# Altium schematic symbol library Hall_Sensor.SchLib: 1 symbol
Pins are listed as number, name and electrical type; pins without a type are passive.

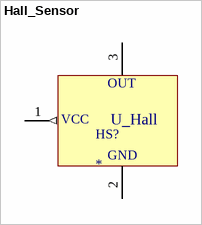
[diagram p0: symbol Hall_Sensor]

## Hall_Sensor
designator HS?
footprint SS495E_Hall_Sensor
pins: 1 VCC (out), 2 GND (power), 3 OUT (power)
text: U_Hall